# Altium footprint library SMD_C0805.PcbLib: 1 footprints
Each footprint in its own frame and in the unit in brackets; x right, y up, seen from the top. Pads: shape width x height; smd on the part's side, far side on the other; paste and mask are expansions set on the pad; w line width, h text height; cw(c..) or ccw(c..) is an arc to the next point about the centre after c.
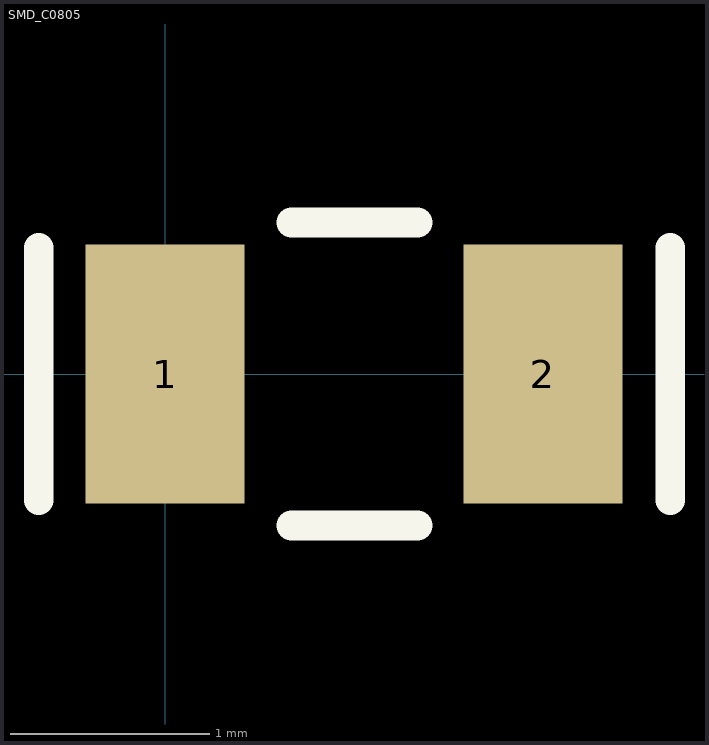
[diagram p0: the footprint, top view; thin cyan lines are the x and y axes]

## SMD_C0805 [mm]
height 1.27
pads (2):
  rect 0.8x1.3 smd: 1(0,0) 2(1.9,0)
Top Overlay:
  lines w0.15: -0.635,-0.635 -0.635,0.635 ; 0.635,-0.762 1.27,-0.762 ; 0.635,0.762 1.27,0.762 ; 2.54,-0.635 2.54,0.635
3D body "SMD_C0805.step": height 1.35, standoff 0, extent -0.1,-0.725 2,0.725